# EAGLE library part USB4105_REVA (library microfloat)
USB Type C Receptacle for USB 2.0 SMT Type, PCB Top Mount
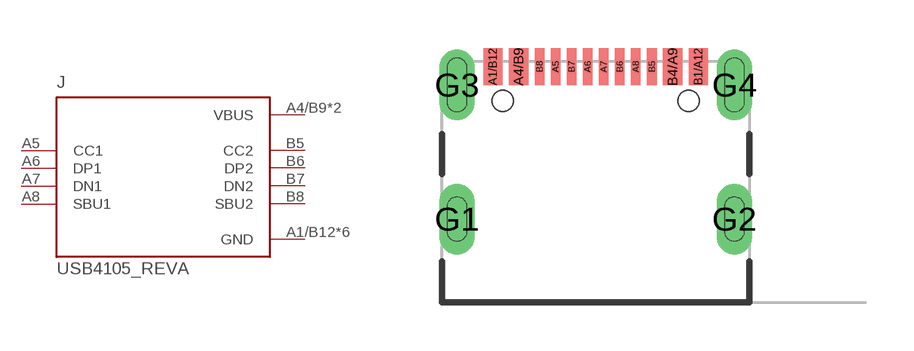
[diagram p5: symbol with the pads of GCT_USB4105_REVA; footprint GCT_USB4105_REVA]

Designator prefix J

## USB4105_REVA (DESCRIPTION: USB-C (USB TYPE-C) USB 2.0 Receptacle Connector 24 (16+8 Dummy) Position Surface Mount, Right Angle; Through Hole; MF: Global Connector Technology; MP: USB4105; PACKAGE: Package)  [GCT_USB4105_REVA]
A1/B12  GND  pwr
A4/B9  VBUS  pwr
A5  CC1
A6  DP1
A7  DN1
A8  SBU1
B1/A12  GND  pwr
B4/A9  VBUS  pwr
B5  CC2
B6  DP2
B7  DN2
B8  SBU2
G1  GND  pwr
G2  GND  pwr
G3  GND  pwr
G4  GND  pwr

## Footprint GCT_USB4105_REVA (pad centres in mm)
smd 0.6 x 1.15: A1/B12 -3.2,4.755; A4/B9 -2.4,4.755; B1/A12 3.2,4.755; B4/A9 2.4,4.755
smd 0.3 x 1.15: A5 -1.25,4.755; A6 -0.25,4.755; A7 0.25,4.755; A8 1.25,4.755; B5 1.75,4.755; B6 0.75,4.755; B7 -0.75,4.755; B8 -1.75,4.755
drill 0.6 pad 1 long: G1 -4.32,0; G2 4.32,0
drill 0.6 pad 1.05 long: G3 -4.32,4.18; G4 4.32,4.18
hole 0.65 at 2.89,3.68
hole 0.65 at -2.89,3.68